# Altium schematic symbol library Header 2X10 single.Schlib: 1 symbol
Pins are listed as number, name and electrical type; pins without a type are passive.

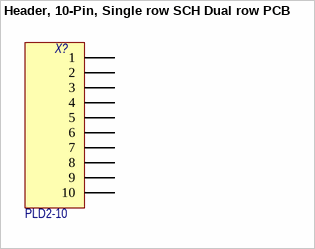
[diagram p0: symbol Header, 10-Pin, Single row SCH Dual row PCB]

## Header, 10-Pin, Single row SCH Dual row PCB
designator X?, comment Наименование: PLD2-10  (hidden comment: Header 2X10)
Header, 10-Pin, Single row SCH Dual row PCB; Потребление, Вт: 0,0; Назначение: Header, 10-Pin, Single row SCH Dual row PCB
footprint PLD2-10
pins: 1, 2, 3, 4, 5, 6, 7, 8, 9, 10